# Altium schematic symbol library 366380003.SchLib: 1 symbol
Pins are listed as number, name and electrical type; pins without a type are passive.

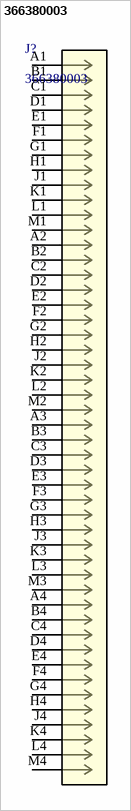
[diagram p0: symbol 366380003]

## 366380003
designator J?
2.50mm, 3.50mm CMC Header, Right-Angle, 48 Position, 1 Port, Brown, Peg,  Lead-Free; Manufacturer_Name: Molex Connector Corporation; Copyright: Copyright (C) 2025 Ultra Librarian. All rights reserved.; Manufacturer_Part_Number: 366380003; RefDes: RefDes; Type: Type
footprint CONN_36638-0003_MOL
pins: A1, A2, A3, A4, B1, B2, B3, B4, C1, C2, C3, C4, D1, D2, D3, D4, E1, E2, E3, E4, F1, F2, F3, F4, G1, G2, G3, G4, H1, H2, H3, H4, J1, J2, J3, J4, K1, K2, K3, K4, L1, L2, L3, L4, M1, M2, M3, M4